# Altium footprint library ind.PcbLib: 25 footprints (part 1 of 2)
Each footprint in its own frame and in the unit in brackets; x right, y up, seen from the top. Pads: shape width x height; smd on the part's side, far side on the other; paste and mask are expansions set on the pad; w line width, h text height; cw(c..) or ccw(c..) is an arc to the next point about the centre after c.
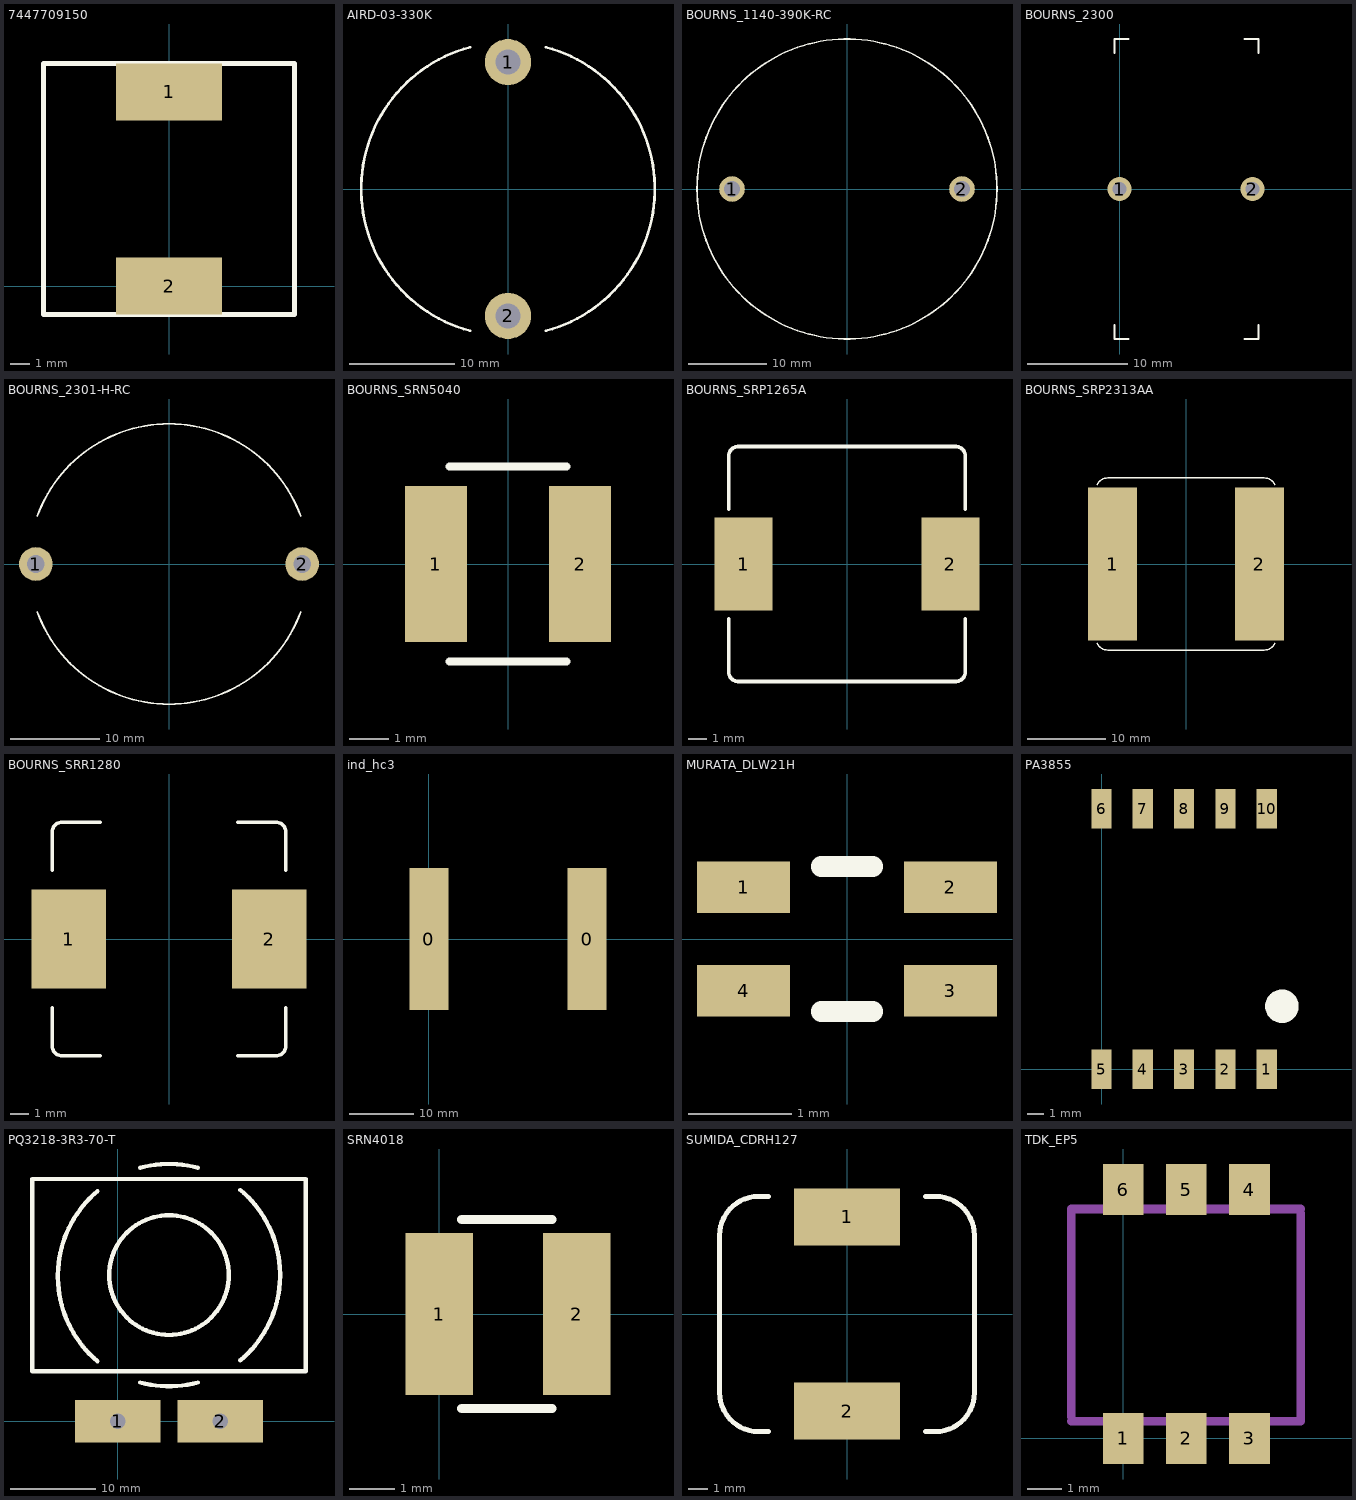
[diagram p0: the footprints below, top view; thin cyan lines are the x and y axes]

## 7447709150 [mm] "Fixed Inductor 7447709150"
pads (2):
  rect 5.4x2.9 smd: 1(0,9.9) 2(0,0)
Top Overlay:
  lines w0.254: -6.4,-1.45 -6.4,11.35 6.4,11.35 6.4,-1.45 -6.4,-1.45

## AIRD-03-330K [mm] "24mm leaded inductor"
pads (2):
  round 4.4 hole 2.4: 1(0,12.1) 2(0,-12.1)
Top Overlay:
  lines w0.254: -3.623,-13.523 cw(c0,0) -3.623,13.523 ; 3.623,-13.523 ccw(c0,0) 3.623,13.523
3D body: height 21, standoff 0, extent -14,-13.996 14,13.996

## BOURNS_1140-390K-RC [mm]
pads (2):
  round 3.25 hole 2 unplated: 1(-14.6,0) 2(14.6,0)
Top Overlay:
  circle w0.2: c0,0 r19.05
3D body "BOURNS_1140-390K-RC.stp": height 26.16, standoff -12.71, extent -19.05,-19.05 19.05,19.05

## BOURNS_2300 [mm] "Bourns 2300 series inductors"
pads (2):
  round 2.4 hole 1.4: 1(0,0) 2(13.208,0)
Top Overlay:
  lines w0.2: -0.5,-13.5 -0.5,-14.9 0.9,-14.9 ; -0.5,13.5 -0.5,14.9 0.9,14.9 ; 12.4,-14.9 13.8,-14.9 13.8,-13.5 ; 12.4,14.9 13.8,14.9 13.8,13.5
3D body "2312-v-rc.stp": height 29.88, standoff -12.58, extent -0.5,-14.884 13.775,14.884

## BOURNS_2301-H-RC [mm]
pads (2):
  round 3.8 hole 2: 1(-15,0) 2(15,0)
Top Overlay:
  lines w0.2: -14.843,-5.402 ccw(c0,0) 14.843,-5.402 ; -14.843,5.402 cw(c0,0) 14.843,5.402
3D body "BOURNS_2301-H-RC.stp": height 15.9, standoff -12.7, extent -15.774,-15.824 15.874,15.824

## BOURNS_SRN5040 [mm] "Bourns SRN5040 series inductors"
pads (2):
  rect 1.6x4 smd: 1(-1.85,0) 2(1.85,0)
Top Overlay:
  lines w0.2: -1.5,-2.5 1.5,-2.5 ; -1.5,2.5 1.5,2.5
3D body "BOURNS_SRN5040.stp": height 3.5, standoff 0.06, extent -2.501,-2.52 2.501,2.5

## BOURNS_SRP1265A [mm] "Bourns SRP1265A series"
pads (2):
  rect 3.1x5 smd: 1(-5.55,0) 2(5.55,0)
Top Overlay:
  lines w0.2: -6.35,-2.95 -6.35,-5.8 ccw(c-5.85,-5.8) -5.85,-6.3 5.85,-6.3 ccw(c5.85,-5.8) 6.35,-5.8 6.35,-2.95 ; -6.35,2.95 -6.35,5.8 cw(c-5.85,5.8) -5.85,6.3 5.85,6.3 cw(c5.85,5.8) 6.35,5.8 6.35,2.95
3D body "Bourns_SRP1265A_series.stp": height 6.31, standoff 0, extent -6.45,-6.25 6.45,6.25

## BOURNS_SRP2313AA [mm] "Bourns SRP2313AA series inductor footprint"
pads (2):
  rect 6.25x19.6 smd: 1(-9.375,0) 2(9.375,0)
Top Overlay:
  lines w0.2: -11.359,-10.134 ccw(c-10,-9.5) -10,-11 10,-11 ccw(c10,-9.5) 11.359,-10.134 ; -11.359,10.134 cw(c-10,9.5) -10,11 10,11 cw(c10,9.5) 11.359,10.134
3D body: height 12.6, standoff 0, extent -11.5,-11 11.5,11

## BOURNS_SRR1280 [mm] "Bourns SRR1280 series"
pads (2):
  rect 4.05x5.4 smd: 1(-5.45,0) 2(5.45,0)
Top Overlay:
  lines w0.2: -6.35,-3.75 -6.35,-5.8 ccw(c-5.8,-5.8) -5.8,-6.35 -3.75,-6.35 ; -6.35,3.75 -6.35,5.8 cw(c-5.8,5.8) -5.8,6.35 -3.75,6.35 ; 3.75,-6.35 5.8,-6.35 ccw(c5.8,-5.8) 6.35,-5.8 6.35,-3.75 ; 3.75,6.35 5.8,6.35 cw(c5.8,5.8) 6.35,5.8 6.35,3.75
3D body "srr1208.stp": height 8.25, standoff -0.25, extent -6.35,-6.35 6.35,6.35

## ind_hc3 [mm] "Cooper-Eaton HC3 Indcutors"
height 18
pads (2):
  rect 6x22 all layers, no hole: 0(0,0) 0(24.5,0)

## MURATA_DLW21H [mm] "Murata DLW21H series CMC"
pads (4):
  rect 0.9x0.5 smd: 1(-1,0.5) 2(1,0.5) 3(1,-0.5) 4(-1,-0.5)
Top Overlay:
  lines w0.2: -0.25,-0.7 0.25,-0.7 ; -0.25,0.7 0.25,0.7
3D body "IND_DLW21H_0805_MUR.step": height 1, standoff 0, extent -1.1,-0.7 1.1,0.7

## PA3855 [mm] "PA3855 and PA3856 Transformers"
height 14
pads (10):
  rect 1.22x2.4 all layers, no hole: 1(10,0) 2(7.5,0) 3(5,0) 4(2.5,0) 5(0,0) 6(0,15.76) 7(2.5,15.76) 8(5,15.76) 9(7.5,15.76) 10(10,15.76)
Top Overlay:
  circle w1.016: c10.922,3.81 r0.508

## PQ3218-3R3-70-T [mm] "PQ3218-3R3-70-T Inductor"
height 18
pads (2):
  rect 10x5 hole 1.8 square: 1(0,0) 2(12,0)
Top Overlay:
  circle w0.508: c6,17.1 r7
  lines w0.508: -2.356,7.014 cw(c6,16.973) -2.356,26.932 ; 2.635,4.543 ccw(c6,17.1) 9.365,4.543 ; 2.635,29.657 cw(c6,17.1) 9.365,29.657 ; 14.356,7.141 ccw(c6,17.1) 14.356,27.059 ; -10,5.842 22,5.842 22,28.346 -10,28.346 -10,5.842

## SRN4018 [mm] "Bourns SRN4018 Series"
pads (2):
  rect 1.5x3.6 smd: 1(0,0) 2(3.05,0)
Top Overlay:
  lines w0.2: 0.5,-2.1 2.5,-2.1 ; 0.5,2.1 2.5,2.1
3D body "srn4018.stp": height 1.79, standoff -0.01, extent -0.7,-2 3.7,2

## SUMIDA_CDRH127 [mm] "Sumida CDRH127"
pads (2):
  rect 5.4x2.9 smd: 1(0,4.95) 2(0,-4.95)
Top Overlay:
  lines w0.254: -4.5,6 ccw(c-4.5,4) -6.5,4 -6.5,-4 ccw(c-4.5,-4) -4.5,-6 -4,-6 ; -4.5,6 -4,6 ; 4,-6 4.5,-6 ccw(c4.5,-4) 6.5,-4 6.5,4 ccw(c4.5,4) 4.5,6 ; 4,6 4.5,6
3D body: height 8, standoff 0, extent -6.5,-6 6.5,6

## TDK_EP5 [mm]
pads (6):
  rect 1.2x1.5 smd: 1(0,0) 2(1.85,0) 3(3.7,0) 4(3.7,7.3) 5(1.85,7.3) 6(0,7.3)
Mechanical 1:
  lines w0.254: -1.524,0.508 5.176,0.508 ; -1.524,0.635 -1.524,6.735 ; -1.493,6.731 5.207,6.731 ; 5.207,0.504 5.207,6.604